# EAGLE library part 743C083 (library _PWM_driver)
Resistor Array, 805x4, isolated
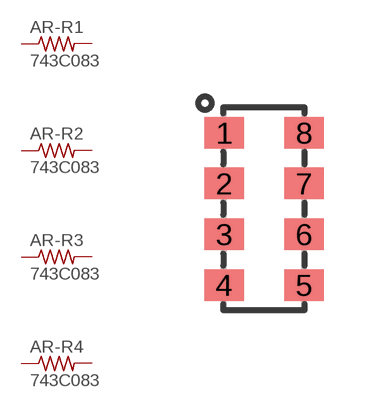
[diagram p9: symbol with the pads of R0805X4-CONCAVE; footprint R0805X4-CONCAVE]

Designator prefix AR; gates -R1=RESISTOR -R2=RESISTOR -R3=RESISTOR -R4=RESISTOR

## 743C083  [R0805X4-CONCAVE]
1  -R1:1  pas
2  -R2:1  pas
3  -R3:1  pas
4  -R4:1  pas
5  -R4:2  pas
6  -R3:2  pas
7  -R2:2  pas
8  -R1:2  pas

## Footprint R0805X4-CONCAVE (pad centres in mm)
smd 0.991 x 0.787: 1 -1,1.905; 2 -1,0.635; 3 -1,-0.635; 4 -1,-1.905; 5 1,-1.905; 6 1,-0.635; 7 1,0.635; 8 1,1.905